# EAGLE library part IS6XWVE4M16EXLL-XX (library memory-issi)
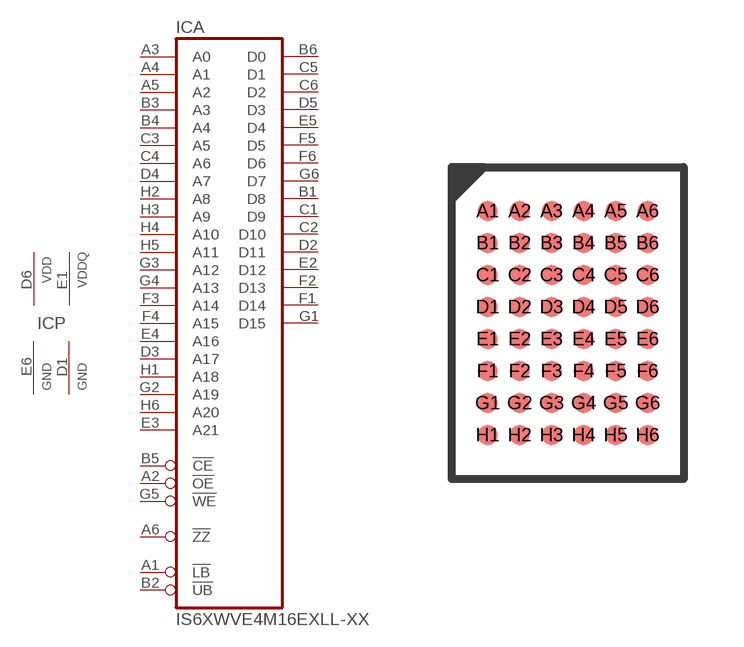
[diagram p4: symbol with the pads of TFBGA48; footprint TFBGA48]

Designator prefix IC; gates A=IS6XWVE4M16 P=PWR-PWRQGND2

## IS6XWVE4M16EXLL-XX  [TFBGA48]
A1  A:!LB  in
A2  A:!OE  in
A3  A:A0  in
A4  A:A1  in
A5  A:A2  in
A6  A:!ZZ  in
B1  A:D8
B2  A:!UB  in
B3  A:A3  in
B4  A:A4  in
B5  A:!CE  in
B6  A:D0
C1  A:D9
C2  A:D10
C3  A:A5  in
C4  A:A6  in
C5  A:D1
C6  A:D2
D1  P:GND  pwr
D2  A:D11
D3  A:A17  in
D4  A:A7  in
D5  A:D3
D6  P:VDD  pwr
E1  P:VDDQ  pwr
E2  A:D12
E3  A:A21  in
E4  A:A16  in
E5  A:D4
E6  P:GND  pwr
F1  A:D14
F2  A:D13
F3  A:A14  in
F4  A:A15  in
F5  A:D5
F6  A:D6
G1  A:D15
G2  A:A19  in
G3  A:A12  in
G4  A:A13  in
G5  A:!WE  in
G6  A:D7
H1  A:A18  in
H2  A:A8  in
H3  A:A9  in
H4  A:A10  in
H5  A:A11  in
H6  A:A20  in

## Footprint TFBGA48 (pad centres in mm)
48-ball Thin-profile, Fine-pitch Ball Grid Array (TFBGA) 6mm x 8mm SST Package Code: B3K Source: http://www.sst.com/dotAsset/40782.pdf
smd 0.5 x 0.5: A1 -2,2.8; A2 -1.2,2.8; A3 -0.4,2.8; A4 0.4,2.8; A5 1.2,2.8; A6 2,2.8; B1 -2,2; B2 -1.2,2; B3 -0.4,2; B4 0.4,2; B5 1.2,2; B6 2,2; C1 -2,1.2; C2 -1.2,1.2; C3 -0.4,1.2; C4 0.4,1.2; C5 1.2,1.2; C6 2,1.2; D1 -2,0.4; D2 -1.2,0.4; D3 -0.4,0.4; D4 0.4,0.4; D5 1.2,0.4; D6 2,0.4; E1 -2,-0.4; E2 -1.2,-0.4; E3 -0.4,-0.4; E4 0.4,-0.4; E5 1.2,-0.4; E6 2,-0.4; F1 -2,-1.2; F2 -1.2,-1.2; F3 -0.4,-1.2; F4 0.4,-1.2; F5 1.2,-1.2; F6 2,-1.2; G1 -2,-2; G2 -1.2,-2; G3 -0.4,-2; G4 0.4,-2; G5 1.2,-2; G6 2,-2; H1 -2,-2.8; H2 -1.2,-2.8; H3 -0.4,-2.8; H4 0.4,-2.8; H5 1.2,-2.8; H6 2,-2.8